# Altium footprint library RF_VIDEO_MODULE.PcbLib: 1 footprints
Each footprint in its own frame and in the unit in brackets; x right, y up, seen from the top. Pads: shape width x height; smd on the part's side, far side on the other; paste and mask are expansions set on the pad; w line width, h text height; cw(c..) or ccw(c..) is an arc to the next point about the centre after c.
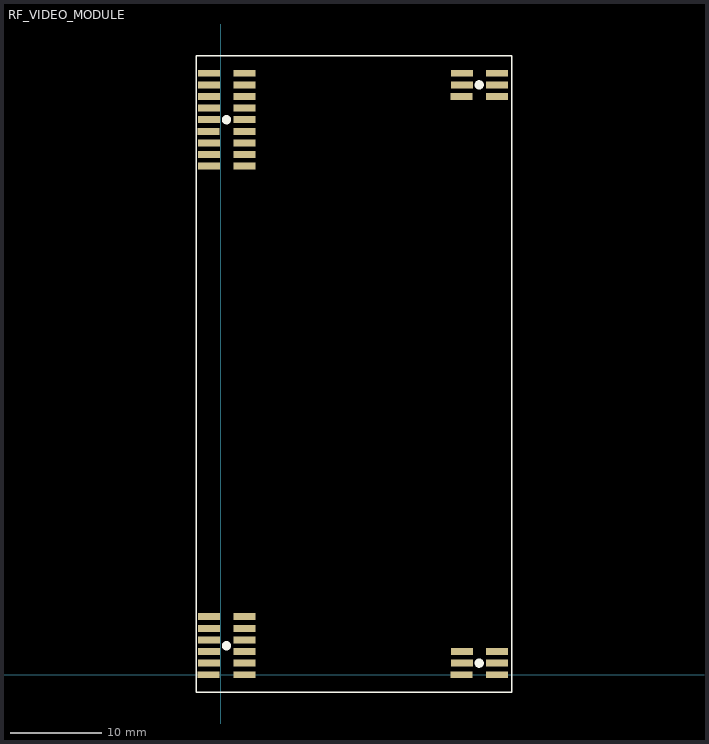
[diagram p0: the footprint, top view; thin cyan lines are the x and y axes]

## RF_VIDEO_MODULE [mil]
pads (42):
  rect 95x30 smd: +3.3V(-50,100) +3.3V(101.77,100) +5V(-51.77,0) +5V(-50,50) +5V(101.77,0) +5V(101.77,50) A_CH_1(-51.77,2340) A_CH_2(-50,2390) A_CH_3(-50,2440) A_ON(101.77,2340) B_CH_1(-50,2490) B_CH_2(-50,2540) B_CH_3(-50,2590) B_ON(101.77,2390) GND(-50,150) GND(-50,250) GND(-50,2190) GND(-50,2290) GND(101.77,150) GND(101.77,200) GND(101.77,250) GND(101.77,2190) GND(101.77,2240) GND(101.77,2290) GND(101.77,2440) GND(101.77,2490) GND(1036.46,0) GND(1036.46,2490) GND(1038.23,50) GND(1038.23,100) GND(1038.23,2540) GND(1038.23,2590) GND(1190,0) GND(1190,50) GND(1190,100) GND(1190,2490) GND(1190,2540) GND(1190,2590) RF1(-50,200) RF2(-50,2240) SCL(101.77,2590) SDA(101.77,2540)
Top Overlay:
  circle w20: c1113.23,50 r10
  circle w20: c25,125 r10
  circle w20: c25,2390 r10
  circle w20: c1113.23,2540 r10
  lines w7.87: -105,-75 -105,2665 1253.23,2665 1253.23,150 1253.23,-75 -105,-75